# Altium integrated library SparkFun-Boards.IntLib: 29 symbols
Pins are listed as number, name and electrical type; pins without a type are passive.

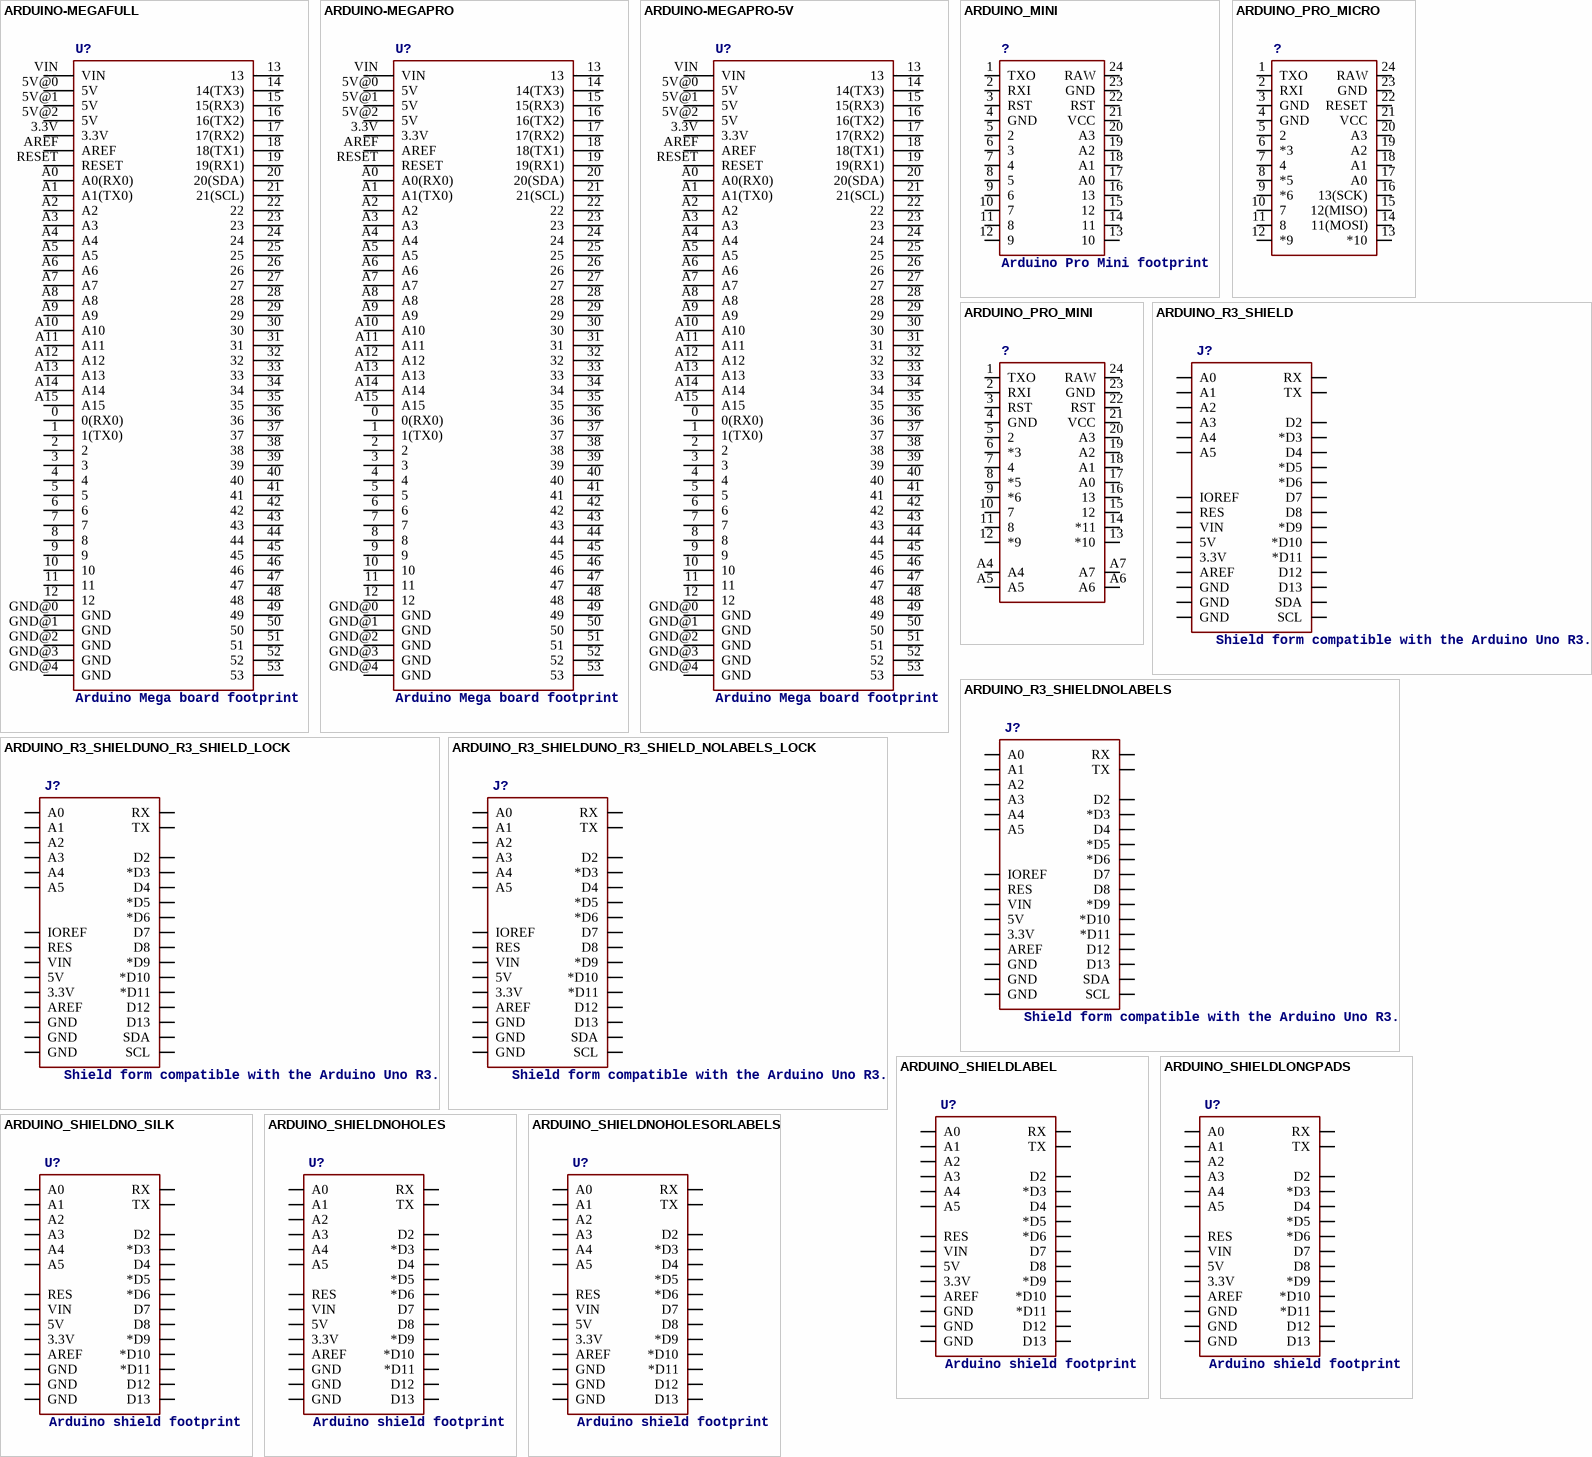
[diagram p0: symbols ARDUINO-MEGAFULL to ARDUINO_SHIELDNOHOLESORLABELS]

## ARDUINO-MEGAFULL
designator U?, comment Arduino Mega board footprint
footprint ARDUINO_MEGA
pins: 0 0(RX0), 1 1(TX0), 2, 3, 3.3V, 4, 5, 5V@0 5V, 5V@1 5V, 5V@2 5V, 6, 7, 8, 9, 10, 11, 12, 13, 14 14(TX3), 15 15(RX3), 16 16(TX2), 17 17(RX2), 18 18(TX1), 19 19(RX1), 20 20(SDA), 21 21(SCL), 22, 23, 24, 25, 26, 27, 28, 29, 30, 31, 32, 33, 34, 35, 36, 37, 38, 39, 40, 41, 42, 43, 44, 45, 46, 47, 48, 49, 50, 51, 52, 53, A0 A0(RX0), A1 A1(TX0), A2, A3, A4, A5, A6, A7, A8, A9, A10, A11, A12, A13, A14, A15, AREF, GND@0 GND, GND@1 GND, GND@2 GND, GND@3 GND, GND@4 GND, RESET, VIN

## ARDUINO-MEGAPRO
designator U?, comment Arduino Mega board footprint
footprint ARDUINO_MEGA-PRO-3.3V
pins: 0 0(RX0), 1 1(TX0), 2, 3, 3.3V, 4, 5, 5V@0 5V, 5V@1 5V, 5V@2 5V, 6, 7, 8, 9, 10, 11, 12, 13, 14 14(TX3), 15 15(RX3), 16 16(TX2), 17 17(RX2), 18 18(TX1), 19 19(RX1), 20 20(SDA), 21 21(SCL), 22, 23, 24, 25, 26, 27, 28, 29, 30, 31, 32, 33, 34, 35, 36, 37, 38, 39, 40, 41, 42, 43, 44, 45, 46, 47, 48, 49, 50, 51, 52, 53, A0 A0(RX0), A1 A1(TX0), A2, A3, A4, A5, A6, A7, A8, A9, A10, A11, A12, A13, A14, A15, AREF, GND@0 GND, GND@1 GND, GND@2 GND, GND@3 GND, GND@4 GND, RESET, VIN

## ARDUINO-MEGAPRO-5V
designator U?, comment Arduino Mega board footprint
footprint ARDUINO_MEGA-PRO-5V
pins: 0 0(RX0), 1 1(TX0), 2, 3, 3.3V, 4, 5, 5V@0 5V, 5V@1 5V, 5V@2 5V, 6, 7, 8, 9, 10, 11, 12, 13, 14 14(TX3), 15 15(RX3), 16 16(TX2), 17 17(RX2), 18 18(TX1), 19 19(RX1), 20 20(SDA), 21 21(SCL), 22, 23, 24, 25, 26, 27, 28, 29, 30, 31, 32, 33, 34, 35, 36, 37, 38, 39, 40, 41, 42, 43, 44, 45, 46, 47, 48, 49, 50, 51, 52, 53, A0 A0(RX0), A1 A1(TX0), A2, A3, A4, A5, A6, A7, A8, A9, A10, A11, A12, A13, A14, A15, AREF, GND@0 GND, GND@1 GND, GND@2 GND, GND@3 GND, GND@4 GND, RESET, VIN

## ARDUINO_MINI
designator ?, comment Arduino Pro Mini footprint
footprint ARDUINO_MINI
pins: 1 TXO, 2 RXI, 3 RST, 4 GND, 5 2, 6 3, 7 4, 8 5, 9 6, 10 7, 11 8, 12 9, 13 10, 14 11, 15 12, 16 13, 17 A0, 18 A1, 19 A2, 20 A3, 21 VCC, 22 RST, 23 GND, 24 RAW

## ARDUINO_PRO_MICRO
designator ?
footprint ARDUINO_PRO_MICRO
pins: 1 TXO, 2 RXI, 3 GND, 4 GND, 5 2, 6 *3, 7 4, 8 *5, 9 *6, 10 7, 11 8, 12 *9, 13 *10, 14 11(MOSI), 15 12(MISO), 16 13(SCK), 17 A0, 18 A1, 19 A2, 20 A3, 21 VCC, 22 RESET, 23 GND, 24 RAW

## ARDUINO_PRO_MINI
designator ?
footprint ARDUINO_PRO_MINI
pins: 1 TXO, 2 RXI, 3 RST, 4 GND, 5 2, 6 *3, 7 4, 8 *5, 9 *6, 10 7, 11 8, 12 *9, 13 *10, 14 *11, 15 12, 16 13, 17 A0, 18 A1, 19 A2, 20 A3, 21 VCC, 22 RST, 23 GND, 24 RAW, A4, A5, A6, A7

## ARDUINO_R3_SHIELD
designator J?, comment Shield form compatible with the Arduino Uno R3.
footprint UNO_R3_SHIELD
pins: 3.3V, 5V, A0, A1, A2, A3, A4, A5, AREF, D2, D3 *D3, D4, D5 *D5, D6 *D6, D7, D8, D9 *D9, D10 *D10, D11 *D11, D12, D13, GND@0 GND, GND@1 GND, GND@2 GND, IOREF, RES, RX, SCL, SDA, TX, VIN

## ARDUINO_R3_SHIELDNOLABELS
designator J?, comment Shield form compatible with the Arduino Uno R3.
footprint UNO_R3_SHIELD_NOLABELS
pins: 3.3V, 5V, A0, A1, A2, A3, A4, A5, AREF, D2, D3 *D3, D4, D5 *D5, D6 *D6, D7, D8, D9 *D9, D10 *D10, D11 *D11, D12, D13, GND@0 GND, GND@1 GND, GND@2 GND, IOREF, RES, RX, SCL, SDA, TX, VIN

## ARDUINO_R3_SHIELDUNO_R3_SHIELD_LOCK
designator J?, comment Shield form compatible with the Arduino Uno R3.
footprint UNO_R3_SHIELD_LOCK
pins: 3.3V, 5V, A0, A1, A2, A3, A4, A5, AREF, D2, D3 *D3, D4, D5 *D5, D6 *D6, D7, D8, D9 *D9, D10 *D10, D11 *D11, D12, D13, GND@0 GND, GND@1 GND, GND@2 GND, IOREF, RES, RX, SCL, SDA, TX, VIN

## ARDUINO_R3_SHIELDUNO_R3_SHIELD_NOLABELS_LOCK
designator J?, comment Shield form compatible with the Arduino Uno R3.
footprint UNO_R3_SHIELD_NOLABELS_LOCK
pins: 3.3V, 5V, A0, A1, A2, A3, A4, A5, AREF, D2, D3 *D3, D4, D5 *D5, D6 *D6, D7, D8, D9 *D9, D10 *D10, D11 *D11, D12, D13, GND@0 GND, GND@1 GND, GND@2 GND, IOREF, RES, RX, SCL, SDA, TX, VIN

## ARDUINO_SHIELDLABEL
designator U?, comment Arduino shield footprint
footprint DUEMILANOVE_SHIELD
pins: 3.3V, 5V, A0, A1, A2, A3, A4, A5, AREF, D2, D3 *D3, D4, D5 *D5, D6 *D6, D7, D8, D9 *D9, D10 *D10, D11 *D11, D12, D13, GND@0 GND, GND@1 GND, GND@2 GND, RES, RX, TX, VIN

## ARDUINO_SHIELDLONGPADS
designator U?, comment Arduino shield footprint
footprint DUEMILANOVE_SHIELD_LONGPADS
pins: 3.3V, 5V, A0, A1, A2, A3, A4, A5, AREF, D2, D3 *D3, D4, D5 *D5, D6 *D6, D7, D8, D9 *D9, D10 *D10, D11 *D11, D12, D13, GND@0 GND, GND@1 GND, GND@2 GND, RES, RX, TX, VIN

## ARDUINO_SHIELDNO_SILK
designator U?, comment Arduino shield footprint
footprint DUEMILANOVE_VIAS
pins: 3.3V, 5V, A0, A1, A2, A3, A4, A5, AREF, D2, D3 *D3, D4, D5 *D5, D6 *D6, D7, D8, D9 *D9, D10 *D10, D11 *D11, D12, D13, GND@0 GND, GND@1 GND, GND@2 GND, RES, RX, TX, VIN

## ARDUINO_SHIELDNOHOLES
designator U?, comment Arduino shield footprint
footprint DUEMILANOVE_SHIELD_NOHOLES
pins: 3.3V, 5V, A0, A1, A2, A3, A4, A5, AREF, D2, D3 *D3, D4, D5 *D5, D6 *D6, D7, D8, D9 *D9, D10 *D10, D11 *D11, D12, D13, GND@0 GND, GND@1 GND, GND@2 GND, RES, RX, TX, VIN

## ARDUINO_SHIELDNOHOLESORLABELS
designator U?, comment Arduino shield footprint
footprint DUEMILANOVE_SHIELD_NOHOLES_NOLABELS
pins: 3.3V, 5V, A0, A1, A2, A3, A4, A5, AREF, D2, D3 *D3, D4, D5 *D5, D6 *D6, D7, D8, D9 *D9, D10 *D10, D11 *D11, D12, D13, GND@0 GND, GND@1 GND, GND@2 GND, RES, RX, TX, VIN

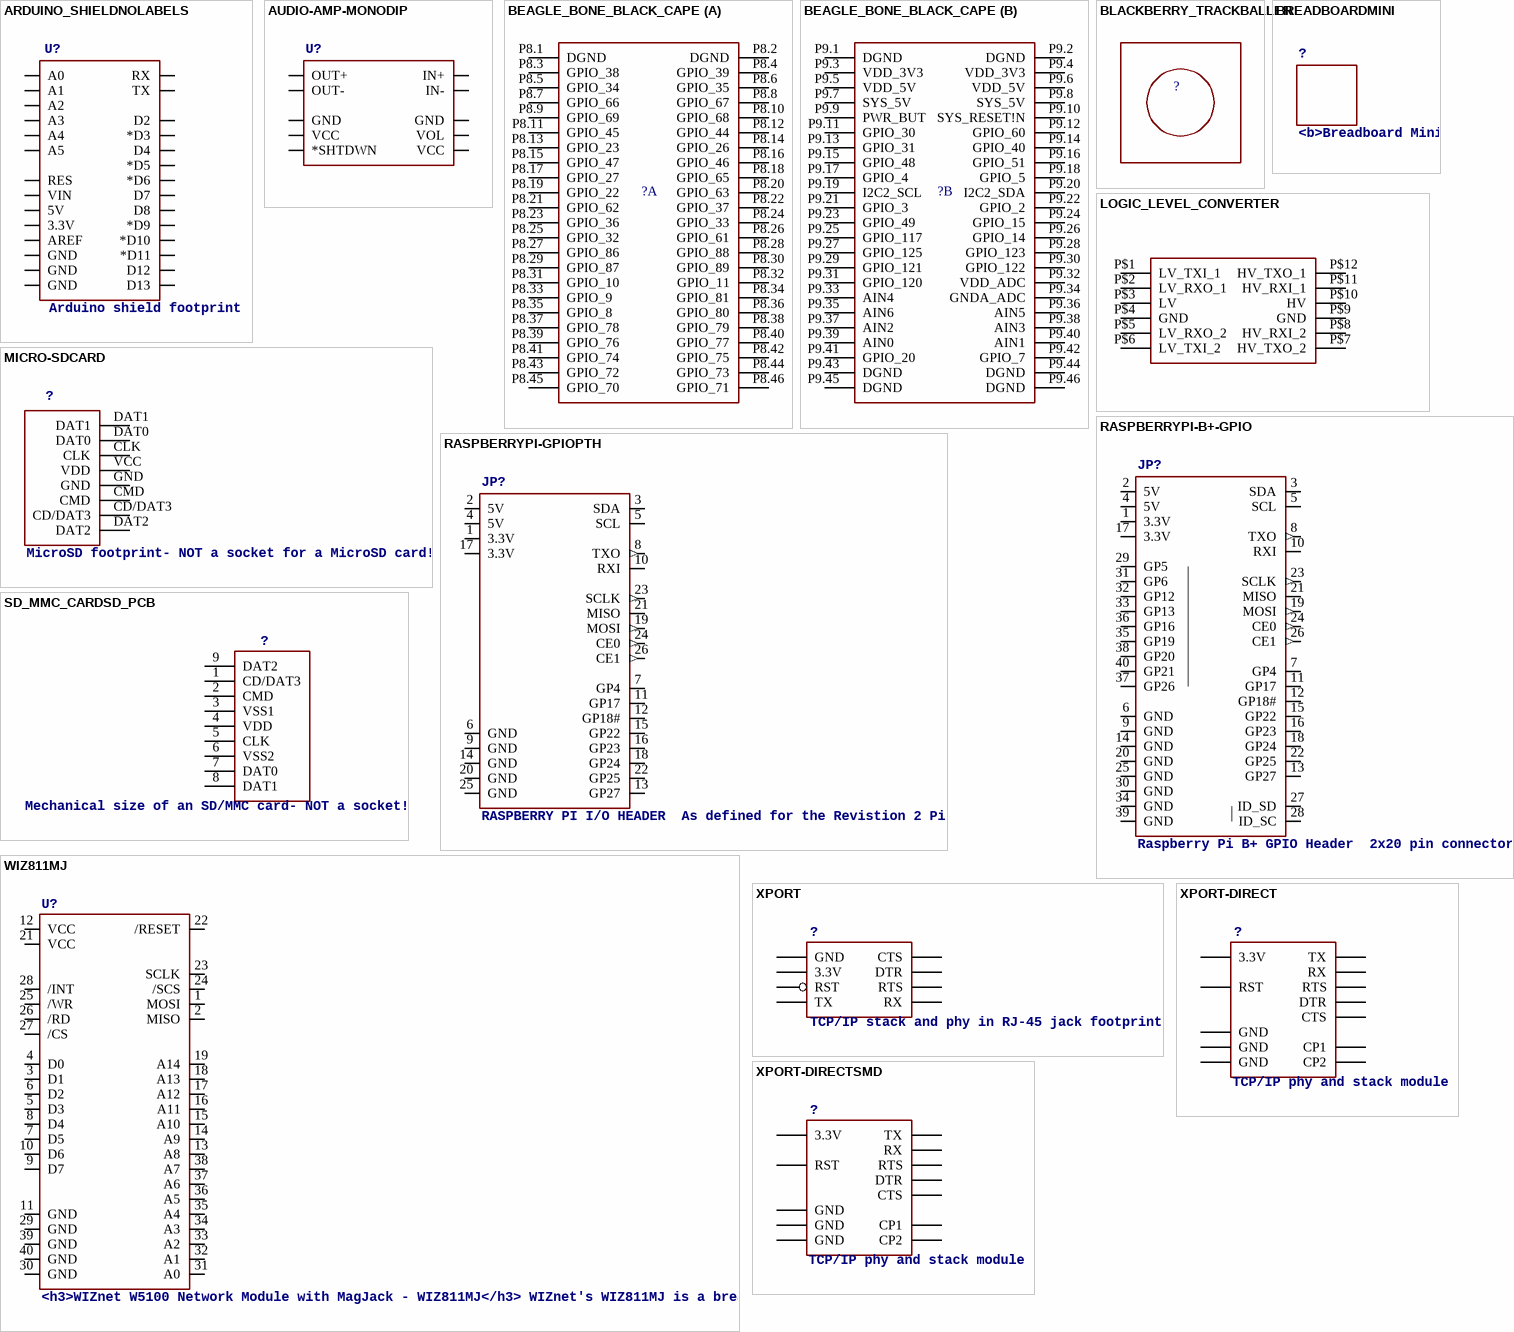
[diagram p1: symbols ARDUINO_SHIELDNOLABELS to XPORT-DIRECTSMD]

## ARDUINO_SHIELDNOLABELS
designator U?, comment Arduino shield footprint
footprint DUEMILANOVE_SHIELD_NOLABELS
pins: 3.3V, 5V, A0, A1, A2, A3, A4, A5, AREF, D2, D3 *D3, D4, D5 *D5, D6 *D6, D7, D8, D9 *D9, D10 *D10, D11 *D11, D12, D13, GND@0 GND, GND@1 GND, GND@2 GND, RES, RX, TX, VIN

## AUDIO-AMP-MONODIP
designator U?
footprint AUDIO-AMP-MONO
pins: IN+, IN-, OUT+, OUT-, PWR+ VCC, PWR- GND, S *SHTDWN, VOL, VOL+ VCC, VOL- GND

## BEAGLE_BONE_BLACK_CAPE
designator ?
footprint BEAGLE_BONE_BLACK_CAPE
part A pins: P8.1 DGND, P8.2 DGND, P8.3 GPIO_38, P8.4 GPIO_39, P8.5 GPIO_34, P8.6 GPIO_35, P8.7 GPIO_66, P8.8 GPIO_67, P8.9 GPIO_69, P8.10 GPIO_68, P8.11 GPIO_45, P8.12 GPIO_44, P8.13 GPIO_23, P8.14 GPIO_26, P8.15 GPIO_47, P8.16 GPIO_46, P8.17 GPIO_27, P8.18 GPIO_65, P8.19 GPIO_22, P8.20 GPIO_63, P8.21 GPIO_62, P8.22 GPIO_37, P8.23 GPIO_36, P8.24 GPIO_33, P8.25 GPIO_32, P8.26 GPIO_61, P8.27 GPIO_86, P8.28 GPIO_88, P8.29 GPIO_87, P8.30 GPIO_89, P8.31 GPIO_10, P8.32 GPIO_11, P8.33 GPIO_9, P8.34 GPIO_81, P8.35 GPIO_8, P8.36 GPIO_80, P8.37 GPIO_78, P8.38 GPIO_79, P8.39 GPIO_76, P8.40 GPIO_77, P8.41 GPIO_74, P8.42 GPIO_75, P8.43 GPIO_72, P8.44 GPIO_73, P8.45 GPIO_70, P8.46 GPIO_71
part B pins: P9.1 DGND, P9.2 DGND, P9.3 VDD_3V3, P9.4 VDD_3V3, P9.5 VDD_5V, P9.6 VDD_5V, P9.7 SYS_5V, P9.8 SYS_5V, P9.9 PWR_BUT, P9.10 SYS_RESET!N, P9.11 GPIO_30, P9.12 GPIO_60, P9.13 GPIO_31, P9.14 GPIO_40, P9.15 GPIO_48, P9.16 GPIO_51, P9.17 GPIO_4, P9.18 GPIO_5, P9.19 I2C2_SCL, P9.20 I2C2_SDA, P9.21 GPIO_3, P9.22 GPIO_2, P9.23 GPIO_49, P9.24 GPIO_15, P9.25 GPIO_117, P9.26 GPIO_14, P9.27 GPIO_125, P9.28 GPIO_123, P9.29 GPIO_121, P9.30 GPIO_122, P9.31 GPIO_120, P9.32 VDD_ADC, P9.33 AIN4, P9.34 GNDA_ADC, P9.35 AIN6, P9.36 AIN5, P9.37 AIN2, P9.38 AIN3, P9.39 AIN0, P9.40 AIN1, P9.41 GPIO_20, P9.42 GPIO_7, P9.43 DGND, P9.44 DGND, P9.45 DGND, P9.46 DGND

## BLACKBERRY_TRACKBALLER
designator ?
PROD_ID: PCB-12486
footprint BLACKBERRY_TRACKBALLER

## BREADBOARDMINI
designator ?, comment <b>Breadboard Mini Self Adhesive</b><p> / This is the mechnical outline for the very small self adhesive breadboard from SparkFun Electronics. Good for very small proto areas. SKU : PRT-07916
footprint BREADBOARD-MINI

## LOGIC_LEVEL_CONVERTER
designator ?, comment Logic Level Converter (3.3v - 5v) / https://www.sparkfun.com/products/8745
footprint LOGIC_LEVEL_CONVERTER
pins: P$1 LV_TXI_1, P$2 LV_RXO_1, P$3 LV, P$4 GND, P$5 LV_RXO_2, P$6 LV_TXI_2, P$7 HV_TXO_2, P$8 HV_RXI_2, P$9 GND, P$10 HV, P$11 HV_RXI_1, P$12 HV_TXO_1

## MICRO-SDCARD
designator ?, comment MicroSD footprint- NOT a socket for a MicroSD card!
footprint MICRO-SDCARD
pins: CD/DAT3, CLK, CMD, DAT0, DAT1, DAT2, GND, VCC VDD

## RASPBERRYPI-B+-GPIO
designator JP?, comment Raspberry Pi B+ GPIO Header / 2x20 pin connector
footprint 2X20-SHROUDED
pins: 1 3.3V (power), 2 5V (power), 3 SDA, 4 5V (power), 5 SCL, 6 GND (power), 7 GP4, 8 TXO (out), 9 GND (power), 10 RXI, 11 GP17, 12 GP18#, 13 GP27, 14 GND (power), 15 GP22, 16 GP23, 17 3.3V (power), 18 GP24, 19 MOSI (out), 20 GND (power), 21 MISO, 22 GP25, 23 SCLK (out), 24 CE0 (out), 25 GND (power), 26 CE1 (out), 27 ID_SD, 28 ID_SC, 29 GP5, 30 GND (power), 31 GP6, 32 GP12, 33 GP13, 34 GND (power), 35 GP19, 36 GP16, 37 GP26, 38 GP20, 39 GND (power), 40 GP21

## RASPBERRYPI-GPIOPTH
designator JP?, comment RASPBERRY PI I/O HEADER / As defined for the Revistion 2 Pi.
DIST: sparkfun; DIST_ID: PRT-11490
footprint 2X13-SHROUDED
pins: 1 3.3V (power), 2 5V (power), 3 SDA, 4 5V (power), 5 SCL, 6 GND (power), 7 GP4, 8 TXO (out), 9 GND (power), 10 RXI, 11 GP17, 12 GP18#, 13 GP27, 14 GND (power), 15 GP22, 16 GP23, 17 3.3V (power), 18 GP24, 19 MOSI (out), 20 GND (power), 21 MISO, 22 GP25, 23 SCLK (out), 24 CE0 (out), 25 GND (power), 26 CE1 (out)

## SD_MMC_CARDSD_PCB
designator ?, comment Mechanical size of an SD/MMC card- NOT a socket!
footprint SD-MMC-CARD
pins: 1 CD/DAT3, 2 CMD, 3 VSS1, 4 VDD, 5 CLK, 6 VSS2, 7 DAT0, 8 DAT1, 9 DAT2

## WIZ811MJ
designator U?, comment <h3>WIZnet W5100 Network Module with MagJack - WIZ811MJ</h3> / WIZnet's WIZ811MJ is a breakout board for the W5100 embedded TCP/IP chip. Also included on the board is a RJ-45 MagJack Connector (RJ45 with X'FMR).<br><br> / See http://www.sparkfun.com/commerce/product_info.php?products_id=9473 for more documentation and info.<br> / <B>**UNPROVEN</b>
footprint WIZ811MJ
pins: 1 MOSI, 2 MISO, 3 D1, 4 D0, 5 D3, 6 D2, 7 D5, 8 D4, 9 D7, 10 D6, 11 GND, 12 VCC, 13 A8, 14 A9, 15 A10, 16 A11, 17 A12, 18 A13, 19 A14, 21 VCC, 22 /RESET, 23 SCLK, 24 /SCS, 25 /WR, 26 /RD, 27 /CS, 28 /INT, 29 GND, 30 GND, 31 A0, 32 A1, 33 A2, 34 A3, 35 A4, 36 A5, 37 A6, 38 A7, 39 GND, 40 GND

## XPORT
designator ?, comment TCP/IP stack and phy in RJ-45 jack footprint
footprint XPORT
pins: P1 GND, P2 3.3V, P3 RST, P4 TX, P5 RX, P6 RTS, P7 DTR, P8 CTS

## XPORT-DIRECT
designator ?, comment TCP/IP phy and stack module
footprint XPORT_DIRECT_MODULE
pins: P1 GND, P2 GND, P3 3.3V, P5 RST, P7 TX, P9 RX, P11 RTS, P13 DTR, P15 CTS, P21 CP2, P23 CP1, P24 GND

## XPORT-DIRECTSMD
designator ?, comment TCP/IP phy and stack module
footprint XPORT_DIRECT_MODULE-SMD
pins: P1 GND, P2 GND, P3 3.3V, P5 RST, P7 TX, P9 RX, P11 RTS, P13 DTR, P15 CTS, P21 CP2, P23 CP1, P24 GND